# Altium footprint library AdafruitFeather.PcbLib: 5 footprints
Each footprint in its own frame and in the unit in brackets; x right, y up, seen from the top. Pads: shape width x height; smd on the part's side, far side on the other; paste and mask are expansions set on the pad; w line width, h text height; cw(c..) or ccw(c..) is an arc to the next point about the centre after c.
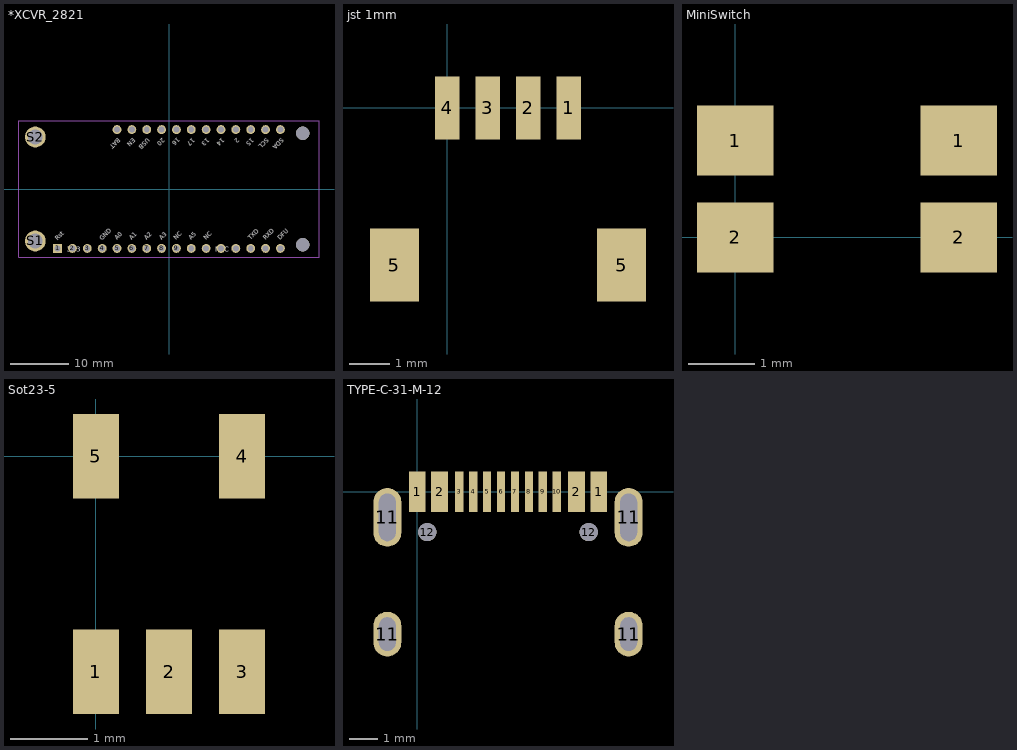
[diagram p0: the footprints below, top view; thin cyan lines are the x and y axes]

## *XCVR_2821 [mm]
pads (32):
  rect 1.508x1.508 hole 1: 1(-19.05,-10.16)
  round 1.508 hole 1: 2(-16.51,-10.16) 3(-13.97,-10.16) 4(-11.43,-10.16) 5(-8.89,-10.16) 6(-6.35,-10.16) 7(-3.81,-10.16) 8(-1.27,-10.16) 9(1.27,-10.16) 10(3.81,-10.16) 11(6.35,-10.16) 12(8.89,-10.16) 13(11.43,-10.16) 14(13.97,-10.16) 15(16.51,-10.16) 16(19.05,-10.16) 17(-8.89,10.16) 18(-6.35,10.16) 19(-3.81,10.16) 20(-1.27,10.16) 21(1.27,10.16) 22(3.81,10.16) 23(6.35,10.16) 24(8.89,10.16) 25(11.43,10.16) 26(13.97,10.16) 27(16.51,10.16) 28(19.05,10.16)
  round 2.286 hole 2.286 unplated: None(22.86,-9.525) None(22.86,9.525)
  round 3.556 hole 2.54: S1(-22.86,-8.89) S2(-22.86,8.89)
Top Overlay:
  text "DFU" at 19.05,-8.763 h0.76
  text "RXD" at 16.51,-8.763 h0.76
  text "TXD" at 13.97,-8.763 h0.76
  text "NC" at 6.35,-8.763 h0.76
  text "A5" at 3.81,-8.763 h0.76
  text "NC" at 1.27,-8.763 h0.76
  text "A3" at -1.27,-8.763 h0.76
  text "A2" at -3.81,-8.763 h0.76
  text "A1" at -6.35,-8.763 h0.76
  text "A0" at -8.89,-8.763 h0.76
  text "GND" at -11.43,-8.89 h0.76
  text "Rst" at -19.05,-8.89 h0.76
  text "SDA" at 19.177,8.763 h0.76
  text "SCL" at 16.637,8.763 h0.76
  text "15" at 14.097,8.763 h0.76
  text "2" at 11.557,8.763 h0.76
  text "14" at 9.017,8.763 h0.76
  text "13" at 6.477,8.763 h0.76
  text "17" at 3.937,8.763 h0.76
  text "16" at 1.397,8.89 h0.76
  text "20" at -1.143,8.763 h0.76
  text "USB" at -3.683,8.763 h0.76
  text "EN" at -6.223,8.763 h0.76
  text "BAT" at -8.763,8.763 h0.76
  text "3V3" at -17.526,-11.049 h1.5
  text "NFC" at 7.874,-11.049 h1.5
Mechanical 16:
  lines w0.05: -25.65,-11.68 25.65,-11.68 25.65,11.68 -25.65,11.68 -25.65,-11.68

## jst 1mm [mm]
pads (6):
  rect 0.6x1.55 smd: 1(3,0) 2(2,0) 3(1,0) 4(0,0)
  rect 1.2x1.8 smd: 5(-1.3,-3.875) 5(4.3,-3.875)
3D body "SM04B-SRSS-TB.STEP": height 2.96, standoff 0, extent -1.476,-4.657 4.524,0.293

## MiniSwitch [mm]
pads (4):
  rect 1.15x1.05 smd: 1(0,1.45) 1(3.35,1.45) 2(0,0) 2(3.35,0)
3D body "EVPAA-002K_202K_402W_602W_802Q.STEP": height 1.7, standoff 0, extent -0.433,-0.783 3.867,2.326

## Sot23-5 [mm]
pads (5):
  rect 0.6x1.1 smd: 1(0,-2.8) 2(0.95,-2.8) 3(1.9,-2.8) 4(1.9,0) 5(0,0)
3D body "SOT23_5.stp": height 0.92, standoff 0.01, extent -0.54,-2.999 2.46,0.205

## TYPE-C-31-M-12 [mm]
pads (18):
  rect 0.6x1.45 smd: 1(0,0) 1(6.5,0) 2(0.8,0) 2(5.7,0)
  rect 0.3x1.45 smd: 3(1.5,0) 4(2,0) 5(2.5,0) 6(3,0) 7(3.5,0) 8(4,0) 9(4.5,0) 10(5,0)
  oval 1x1.6 hole 1.2 slot 0.6 at 0 deg: 11(-1.07,-5.095) 11(7.57,-5.095)
  oval 1x2.1 hole 1.7 slot 0.6 at 0 deg: 11(-1.07,-0.915) 11(7.57,-0.915)
  round 0.65 hole 0.65: 12(0.36,-1.445) 12(6.14,-1.445)
3D body "USB - C.step": height 3.27, standoff -0.99, extent -1.275,-7.75 7.675,0